# EAGLE library part CA3130 (library 0027 DCF77-Empfänger)
OP AMP
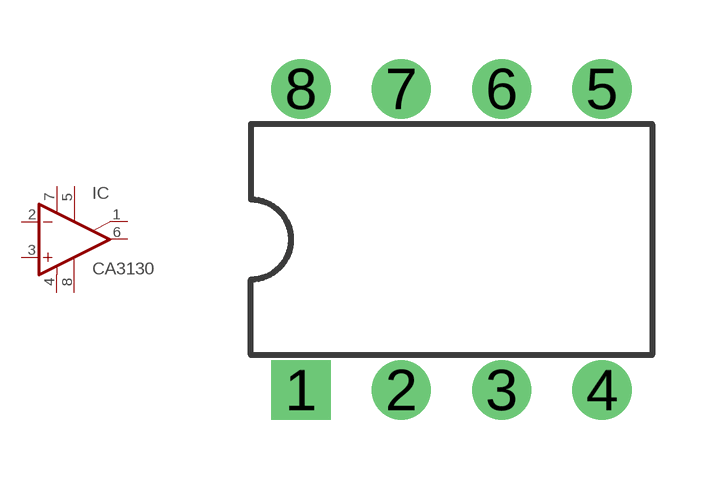
[diagram p2: symbol with the pads of DIL08; footprint DIL08]

Designator prefix IC

## CA3130N  [DIL08]
1  ON/CMP  pas
2  -IN  in
3  +IN  in
4  V-  pwr
5  ON  pas
6  OUT  out
7  V+  pwr
8  CMP  pas

## Footprint DIL08 (pad centres in mm)
Dual In Line Package
drill 0.8 pad 1.5 square: 1 -3.81,-3.81
drill 0.8 pad 1.5: 2 -1.27,-3.81; 3 1.27,-3.81; 4 3.81,-3.81; 5 3.81,3.81; 6 1.27,3.81; 7 -1.27,3.81; 8 -3.81,3.81